# Altium footprint library GPS_LIB_PCB.PcbLib: 19 footprints (part 2 of 2)
Each footprint in its own frame and in the unit in brackets; x right, y up, seen from the top. Pads: shape width x height; smd on the part's side, far side on the other; paste and mask are expansions set on the pad; w line width, h text height; cw(c..) or ccw(c..) is an arc to the next point about the centre after c.
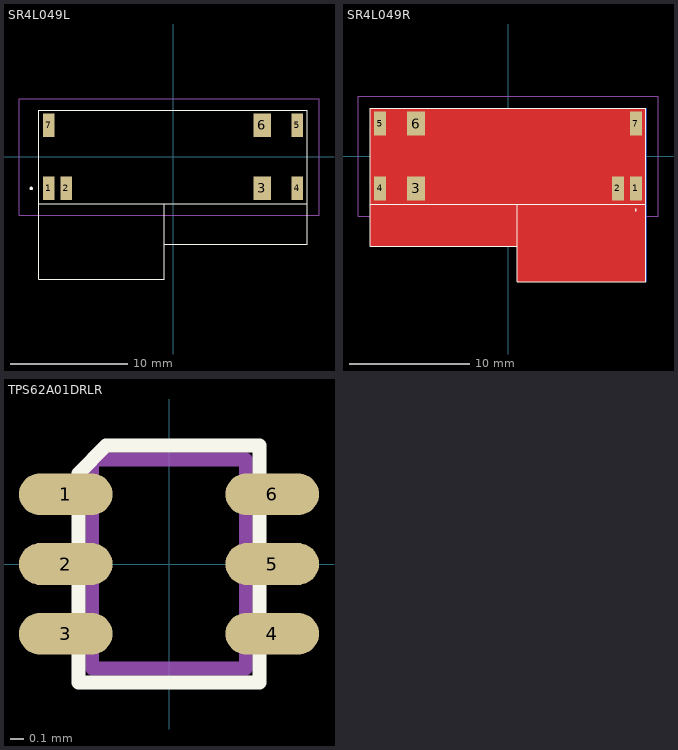
[diagram p1: the footprints below, top view; thin cyan lines are the x and y axes]

## SR4L049L [mm]
pads (7):
  rect 1x2 smd: 1(-10.65,-2.7) 2(-9.15,-2.7) 4(10.65,-2.7) 5(10.65,2.7) 7(-10.65,2.7)
  rect 1.5x2 smd: 3(7.65,-2.7) 6(7.65,2.7)
Top Overlay:
  lines w0.1: -0.762,-7.5 11.5,-7.5 11.5,4 ; -0.762,-4 -0.762,-10.5 -11.5,-10.5 -11.5,4 ; -11.5,4 -11.5,-4 11.5,-4 11.5,4 ; -11.5,4 11.5,4
  lines w0.2: -12.2,-2.7 ccw(c-12.15,-2.7) -12.1,-2.7 ; -12.2,-2.7 cw(c-12.15,-2.7) -12.1,-2.7 ; -12.2,-2.7 ccw(c-12.15,-2.7) -12.1,-2.7
Mechanical 15:
  lines w0.1: -13.2,-5 -13.2,5 12.5,5 12.5,-5 -13.2,-5
3D body: height 3.5, standoff 0, extent -11.5,-4 11.5,4
3D body: height 3.5, standoff 3.4, extent -11.15,-3.2 -10.15,-2.2

## SR4L049R [mm]
pads (7):
  rect 1x2 smd: 1(10.65,-2.7) 2(9.15,-2.7) 4(-10.65,-2.7) 5(-10.65,2.7) 7(10.65,2.7)
  rect 1.5x2 smd: 3(-7.65,-2.7) 6(-7.65,2.7)
Top Layer:
  pour cut-out: -11.5,4 -11.5,-7.5 0.762,-7.5 0.762,-10.5 11.5,-10.5 11.5,4
Bottom Layer:
  pour cut-out: -11.45,4 -11.45,-7.5 0.812,-7.5 0.812,-10.5 11.55,-10.5 11.55,4
Top Overlay:
  lines w0.1: 0.762,-7.5 -11.5,-7.5 -11.5,4 ; 0.762,-4 0.762,-10.5 11.5,-10.5 11.5,4 ; -11.5,-4 -11.5,4 ; -11.5,-4 11.5,-4 ; -11.5,-4 11.5,-4 ; -11.5,-4 -11.5,4 ; -11.5,4 11.5,4 ; -11.5,4 11.5,4 ; 11.5,-4 11.5,4 ; 11.5,-4 11.5,4 ; 10.6,-4.5 ccw(c10.65,-4.5) 10.7,-4.5 ccw(c10.65,-4.5) 10.6,-4.5
Mechanical 15:
  lines w0.1: -12.5,-5 12.5,-5 12.5,5 -12.5,5 -12.5,-5
3D body: height 3.5, standoff 0, extent -11.5,-4 11.5,4
3D body: height 3.5, standoff 3.4, extent 10.295,-3.929 11.295,-2.929

## TPS62A01DRLR [mm]
pads (6):
  oval 0.67x0.3 smd: 1(-0.74,0.5) 2(-0.74,0) 3(-0.74,-0.5) 4(0.74,-0.5) 5(0.74,0) 6(0.74,0.5)
Top Overlay:
  lines w0.1: -0.65,-0.85 -0.65,0.65 -0.45,0.85 0.65,0.85 0.65,-0.85 -0.65,-0.85
Mechanical 7:
  lines w0.1: -0.55,-0.75 -0.55,0.75 0.55,0.75 0.55,-0.75 -0.55,-0.75
3D body: height 0.61, standoff 0.6, extent -0.63,0.67 -0.47,0.83
3D body: height 0.6, standoff 0.08, extent -0.65,-0.85 0.65,0.85